# EAGLE library part PSOC4000-CY8C4013SXI-41 (library openag-microcontrollers)
Cypress - CY8C4013SXI-411 - IC MCU 32BIT 8KB FLASH 16SOIC Description: ARM Cortex-M0 PSOC 4 CY8C4000 Microcontroller IC 32-Bit 16MHz 8KB (8K x 8) FLASH 16-SOIC Technical Specifications: Core Processor: ARM Cortex-M0 Core Size: 32-Bit Speed: 16MHz Connectivity: I²C Peripherals: Brown-out Detect/Reset, POR, PWM, WDT Number of I/O: 12 Program Memory Size: 8KB (8K x 8) Program Memory Type: FLASH RAM Size: 2K x 8 Voltage - Supply (Vcc/Vdd): 1.71 V ~ 5.5 V Operating Temperature: -40°C ~ 85°C Package/Case: 16-SOIC (0.154", 3.90mm Width) Maximum current executing from flash @ 16MHz (Active Mode): 4.5mA Maximum source/sink current per GPIO: 25mA Maximum total GPIO source/sink current: 85mA Datasheet(s): PSoC 4000 Family Datasheet <http://www.cypress.com/?docID=49214> PSoC 4000 Overview <http://www.cypress.com/?docID=48784> Vendor(s): Digikey: CY8C4013SXI-411-ND <https://www.digikey.com/product-detail/en/cypress-semiconductor-corp/CY8C4013SXI-411/CY8C4013SXI-411-ND/4842997>
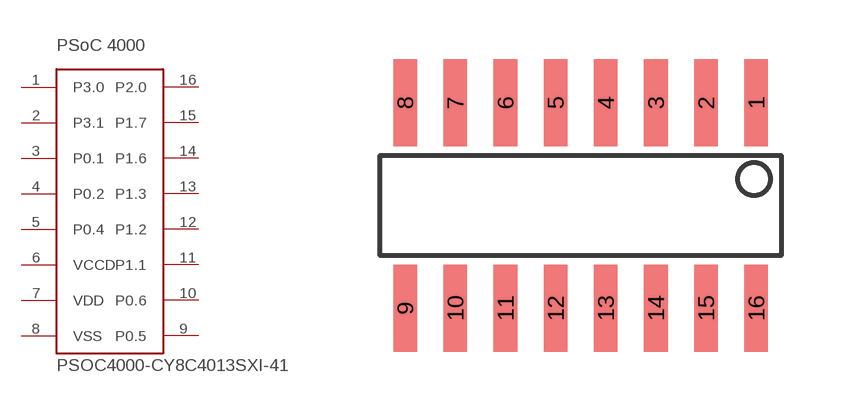
[diagram p0: symbol with the pads of SOIC16; footprint SOIC16]

Designator prefix -

## PSOC4000-CY8C4013SXI-41 (POPULATE: YES; VERIFIED: NO)  [SOIC16]
1  P3.0
2  P3.1
3  P0.1
4  P0.2
5  P0.4
6  VCCD
7  VDD
8  VSS
9  P0.5
10  P0.6
11  P1.1
12  P1.2
13  P1.3
14  P1.6
15  P1.7
16  P2.0

## Footprint SOIC16 (pad centres in mm)
smd 0.6 x 2.2: 1 4.445,2.6; 2 3.175,2.6; 3 1.905,2.6; 4 0.635,2.6; 5 -0.635,2.6; 6 -1.905,2.6; 7 -3.175,2.6; 8 -4.445,2.6; 9 -4.445,-2.6; 10 -3.175,-2.6; 11 -1.905,-2.6; 12 -0.635,-2.6; 13 0.635,-2.6; 14 1.905,-2.6; 15 3.175,-2.6; 16 4.445,-2.6